# Altium schematic symbol library VNQ830.SchLib: 1 symbol
Pins are listed as number, name and electrical type; pins without a type are passive.

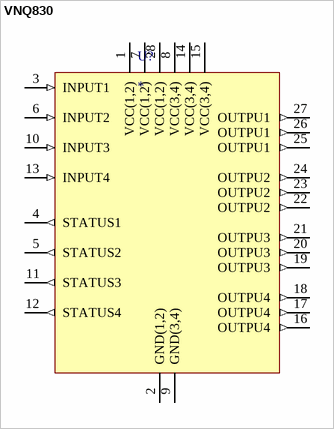
[diagram p0: symbol VNQ830]

## VNQ830
designator U?
pins: 1 VCC(1,2) (power), 2 GND(1,2) (power), 3 INPUT1 (in), 4 STATUS1 (out), 5 STATUS2 (out), 6 INPUT2 (in), 7 VCC(1,2) (power), 8 VCC(3,4) (power), 9 GND(3,4) (power), 10 INPUT3 (in), 11 STATUS3 (out), 12 STATUS4 (out), 13 INPUT4 (in), 14 VCC(3,4), 15 VCC(3,4), 16 OUTPU4 (out), 17 OUTPU4 (out), 18 OUTPU4 (out), 19 OUTPU3 (out), 20 OUTPU3 (out), 21 OUTPU3 (out), 22 OUTPU2 (out), 23 OUTPU2 (out), 24 OUTPU2 (out), 25 OUTPU1 (out), 26 OUTPU1 (out), 27 OUTPU1 (out), 28 VCC(1,2) (power)